# EAGLE library part MCP3421 (library misc)
18-Bit Analog-to-Digital Converter with I2C Interface and On-Board Reference
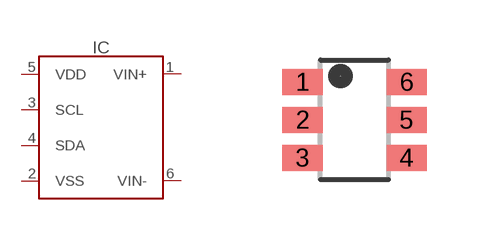
[diagram p54: symbol with the pads of SOT23-6; footprint SOT23-6]

Designator prefix IC

## MCP3421 (MANF: Microchip; MANF#: mcp3421)  [SOT23-6]
1  VIN+
2  VSS
3  SCL
4  SDA
5  VDD
6  VIN-

## Footprint SOT23-6 (pad centres in mm)
smd 1 x 0.65: 1 -1.3,0.95; 2 -1.3,0; 3 -1.3,-0.95; 4 1.3,-0.95; 5 1.3,0; 6 1.3,0.95